# Altium footprint library Vcut.PcbLib: 1 footprints
Each footprint in its own frame and in the unit in brackets; x right, y up, seen from the top. Pads: shape width x height; smd on the part's side, far side on the other; paste and mask are expansions set on the pad; w line width, h text height; cw(c..) or ccw(c..) is an arc to the next point about the centre after c.
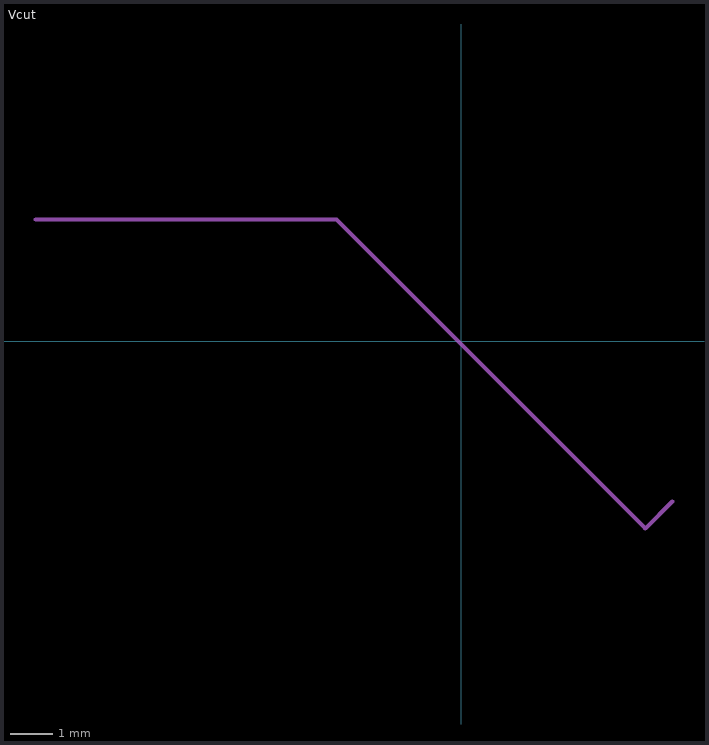
[diagram p0: the footprint, top view; thin cyan lines are the x and y axes]

## Vcut [mm]
Mechanical 2:
  lines w0.1: -10.067,2.875 -2.955,2.875 4.347,-4.428 4.982,-3.793
  text "V-CUT" at -8.538,3.348 h1
  text "V-CUT" at -3.781,2.494 h1